# EAGLE library part TEN60-P6-P6-RA (library Connectors)
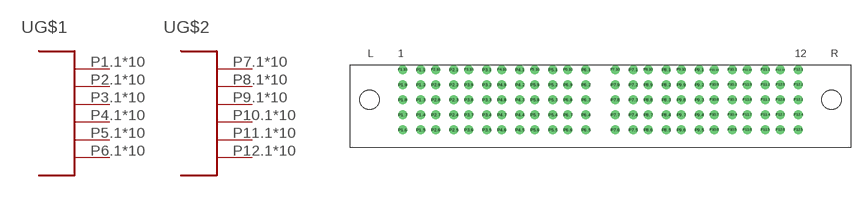
[diagram p1: symbol with the pads of TEN60-P6-P6-RA; footprint TEN60-P6-P6-RA]

Designator prefix -; gates G$1=TEN60-6-PWR G$2=TEN60-6-PWR

## TEN60-P6-P6-RA  [TEN60-P6-P6-RA]
P1.1  G$1:P$1
P1.2  G$1:P$1
P1.3  G$1:P$1
P1.4  G$1:P$1
P1.5  G$1:P$1
P1.6  G$1:P$1
P1.7  G$1:P$1
P1.8  G$1:P$1
P1.9  G$1:P$1
P1.10  G$1:P$1
P2.1  G$1:P$2
P2.2  G$1:P$2
P2.3  G$1:P$2
P2.4  G$1:P$2
P2.5  G$1:P$2
P2.6  G$1:P$2
P2.7  G$1:P$2
P2.8  G$1:P$2
P2.9  G$1:P$2
P2.10  G$1:P$2
P3.1  G$1:P$3
P3.2  G$1:P$3
P3.3  G$1:P$3
P3.4  G$1:P$3
P3.5  G$1:P$3
P3.6  G$1:P$3
P3.7  G$1:P$3
P3.8  G$1:P$3
P3.9  G$1:P$3
P3.10  G$1:P$3
P4.1  G$1:P$4
P4.2  G$1:P$4
P4.3  G$1:P$4
P4.4  G$1:P$4
P4.5  G$1:P$4
P4.6  G$1:P$4
P4.7  G$1:P$4
P4.8  G$1:P$4
P4.9  G$1:P$4
P4.10  G$1:P$4
P5.1  G$1:P$5
P5.2  G$1:P$5
P5.3  G$1:P$5
P5.4  G$1:P$5
P5.5  G$1:P$5
P5.6  G$1:P$5
P5.7  G$1:P$5
P5.8  G$1:P$5
P5.9  G$1:P$5
P5.10  G$1:P$5
P6.1  G$1:P$6
P6.2  G$1:P$6
P6.3  G$1:P$6
P6.4  G$1:P$6
P6.5  G$1:P$6
P6.6  G$1:P$6
P6.7  G$1:P$6
P6.8  G$1:P$6
P6.9  G$1:P$6
P6.10  G$1:P$6
P7.1  G$2:P$1
P7.2  G$2:P$1
P7.3  G$2:P$1
P7.4  G$2:P$1
P7.5  G$2:P$1
P7.6  G$2:P$1
P7.7  G$2:P$1
P7.8  G$2:P$1
P7.9  G$2:P$1
P7.10  G$2:P$1
P8.1  G$2:P$2
P8.2  G$2:P$2
P8.3  G$2:P$2
P8.4  G$2:P$2
P8.5  G$2:P$2
P8.6  G$2:P$2
P8.7  G$2:P$2
P8.8  G$2:P$2
P8.9  G$2:P$2
P8.10  G$2:P$2
P9.1  G$2:P$3
P9.2  G$2:P$3
P9.3  G$2:P$3
P9.4  G$2:P$3
P9.5  G$2:P$3
P9.6  G$2:P$3
P9.7  G$2:P$3
P9.8  G$2:P$3
P9.9  G$2:P$3
P9.10  G$2:P$3
P10.1  G$2:P$4
P10.2  G$2:P$4
P10.3  G$2:P$4
P10.4  G$2:P$4
P10.5  G$2:P$4
P10.6  G$2:P$4
P10.7  G$2:P$4
P10.8  G$2:P$4
P10.9  G$2:P$4
P10.10  G$2:P$4
P11.1  G$2:P$5
P11.2  G$2:P$5
P11.3  G$2:P$5
P11.4  G$2:P$5
P11.5  G$2:P$5
P11.6  G$2:P$5
P11.7  G$2:P$5
P11.8  G$2:P$5
P11.9  G$2:P$5
P11.10  G$2:P$5
P12.1  G$2:P$6
P12.2  G$2:P$6
P12.3  G$2:P$6
P12.4  G$2:P$6
P12.5  G$2:P$6
P12.6  G$2:P$6
P12.7  G$2:P$6
P12.8  G$2:P$6
P12.9  G$2:P$6
P12.10  G$2:P$6

## Footprint TEN60-P6-P6-RA (pad centres in mm)
drill 1: P1.1 11.82,12.9; P1.2 11.82,10.4; P1.3 11.82,7.9; P1.4 11.82,5.4; P1.5 11.82,2.9; P1.6 8.82,2.9; P1.7 8.82,5.4; P1.8 8.82,7.9; P1.9 8.82,10.4; P1.10 8.82,12.9; P2.1 17.32,12.9; P2.2 17.32,10.4; P2.3 17.32,7.9; P2.4 17.32,5.4; P2.5 17.32,2.9; P2.6 14.32,2.9; P2.7 14.32,5.4; P2.8 14.32,7.9; P2.9 14.32,10.4; P2.10 14.32,12.9; P3.1 22.82,12.9; P3.2 22.82,10.4; P3.3 22.82,7.9; P3.4 22.82,5.4; P3.5 22.82,2.9; P3.6 19.82,2.9; P3.7 19.82,5.4; P3.8 19.82,7.9; P3.9 19.82,10.4; P3.10 19.82,12.9; P4.1 28.32,12.9; P4.2 28.32,10.4; P4.3 28.32,7.9; P4.4 28.32,5.4; P4.5 28.32,2.9; P4.6 25.32,2.9; P4.7 25.32,5.4; P4.8 25.32,7.9; P4.9 25.32,10.4; P4.10 25.32,12.9; P5.1 33.82,12.9; P5.2 33.82,10.4; P5.3 33.82,7.9; P5.4 33.82,5.4; P5.5 33.82,2.9; P5.6 30.82,2.9; P5.7 30.82,5.4; P5.8 30.82,7.9; P5.9 30.82,10.4; P5.10 30.82,12.9; P6.1 39.32,12.9; P6.2 39.32,10.4; P6.3 39.32,7.9; P6.4 39.32,5.4; P6.5 39.32,2.9; P6.6 36.32,2.9; P6.7 36.32,5.4; P6.8 36.32,7.9; P6.9 36.32,10.4; P6.10 36.32,12.9; P7.1 47.16,12.9; P7.2 47.16,10.4; P7.3 47.16,7.9; P7.4 47.16,5.4; P7.5 47.16,2.9; P7.6 44.16,2.9; P7.7 44.16,5.4; P7.8 44.16,7.9; P7.9 44.16,10.4; P7.10 44.16,12.9; P8.1 52.66,12.9; P8.2 52.66,10.4; P8.3 52.66,7.9; P8.4 52.66,5.4; P8.5 52.66,2.9; P8.6 49.66,2.9; P8.7 49.66,5.4; P8.8 49.66,7.9; P8.9 49.66,10.4; P8.10 49.66,12.9; P9.1 58.16,12.9; P9.2 58.16,10.4; P9.3 58.16,7.9; P9.4 58.16,5.4; P9.5 58.16,2.9; P9.6 55.16,2.9; P9.7 55.16,5.4; P9.8 55.16,7.9; P9.9 55.16,10.4; P9.10 55.16,12.9; P10.1 63.66,12.9; P10.2 63.66,10.4; P10.3 63.66,7.9; P10.4 63.66,5.4; P10.5 63.66,2.9; P10.6 60.66,2.9; P10.7 60.66,5.4; P10.8 60.66,7.9; P10.9 60.66,10.4; P10.10 60.66,12.9; P11.1 69.16,12.9; P11.2 69.16,10.4; P11.3 69.16,7.9; P11.4 69.16,5.4; P11.5 69.16,2.9; P11.6 66.16,2.9; P11.7 66.16,5.4; P11.8 66.16,7.9; P11.9 66.16,10.4; P11.10 66.16,12.9; P12.1 74.66,12.9; P12.2 74.66,10.4; P12.3 74.66,7.9; P12.4 74.66,5.4; P12.5 74.66,2.9; P12.6 71.66,2.9; P12.7 71.66,5.4; P12.8 71.66,7.9; P12.9 71.66,10.4; P12.10 71.66,12.9
hole 3.2 at 80.16,7.9
hole 3.2 at 3.32,7.9